# Altium schematic symbol library Xilinx.SchLib: 3 symbols
Pins are listed as number, name and electrical type; pins without a type are passive.

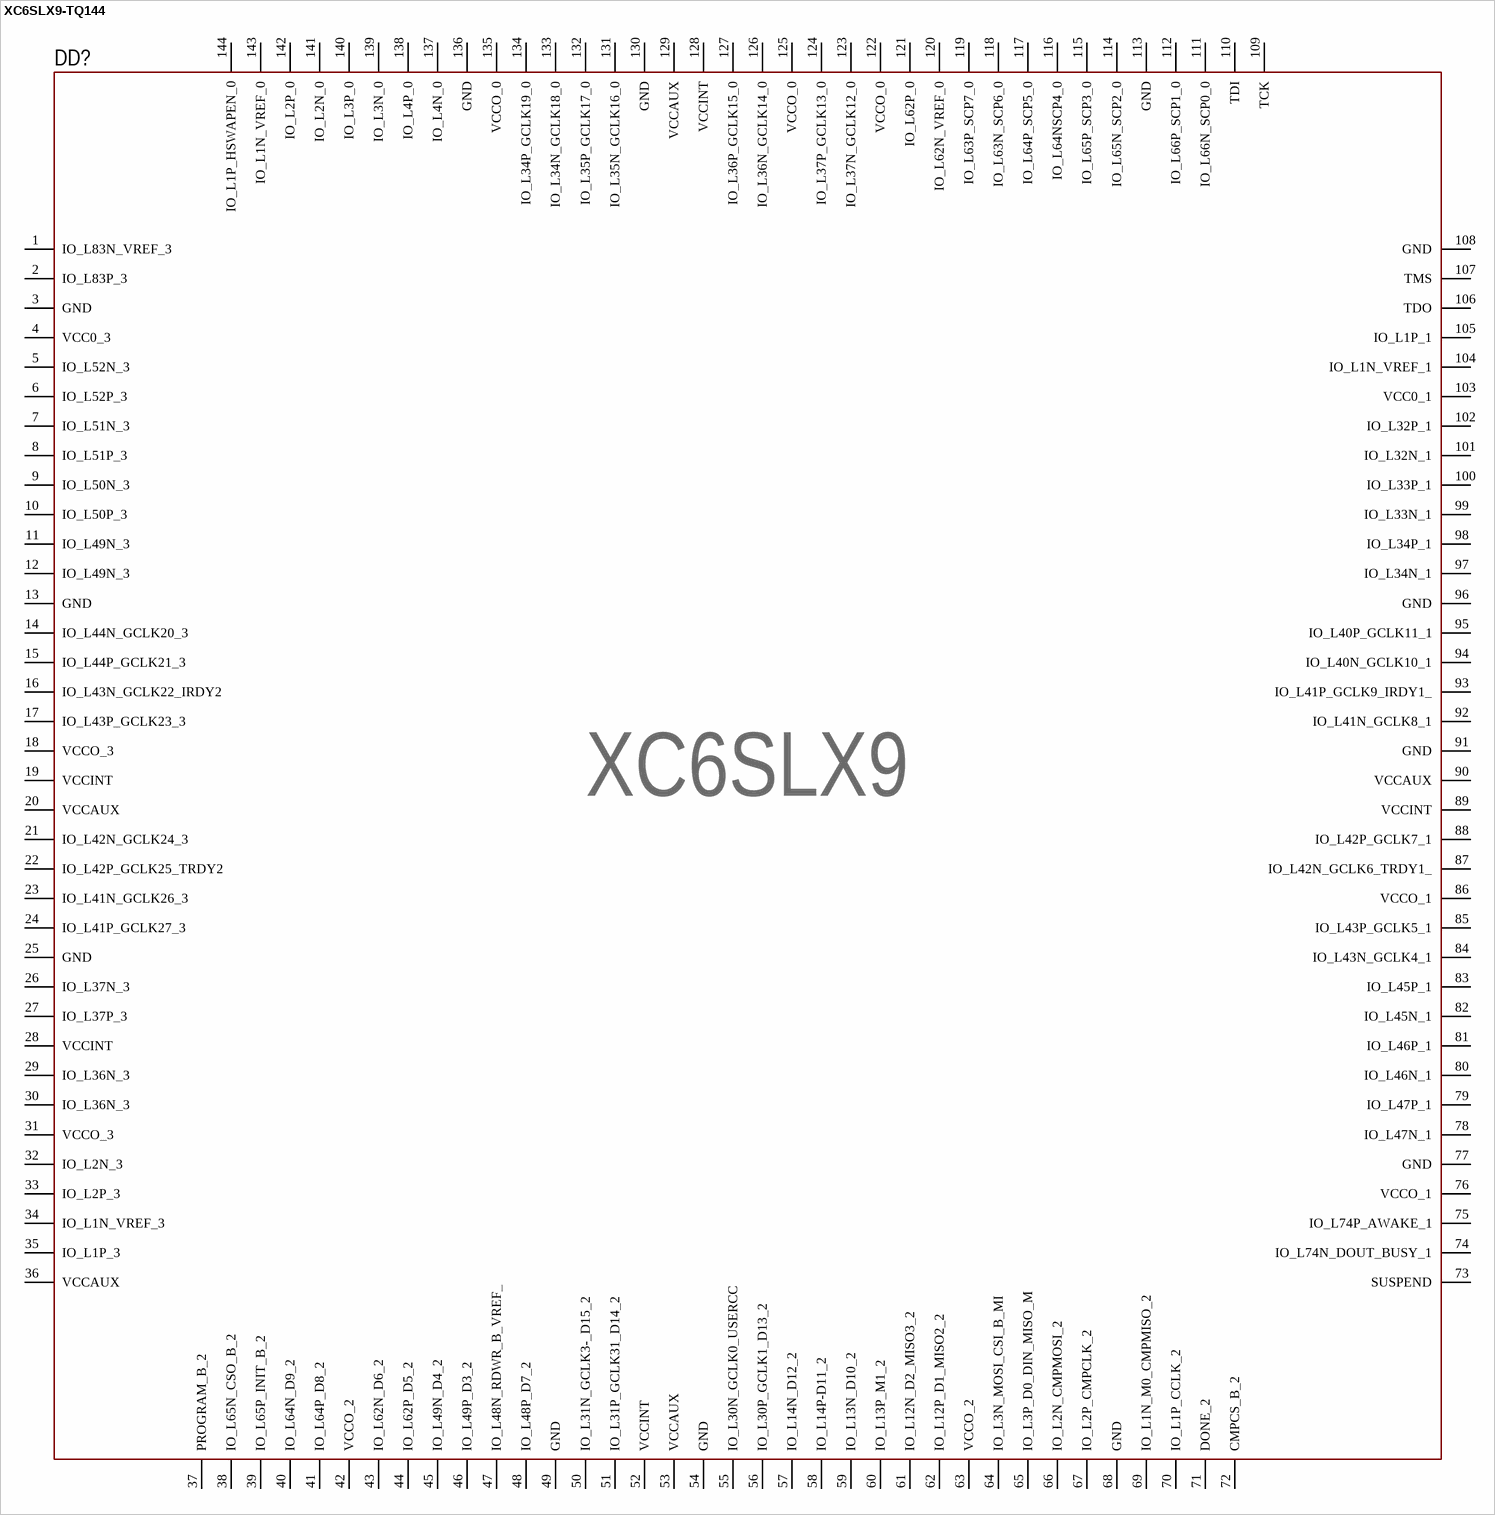
[diagram p0: symbol XC6SLX9-TQ144]

## XC6SLX9-TQ144
designator DD?, comment Part: XC6SLX9  (hidden comment: XC6SLX9-2TQG144I)
Spartan®-6 LX Field Programmable Gate Array (FPGA), 102 I/O, 144-Pin.; Speed: 2; Temp: I; Case: TQG144
footprint TQFP-144 (TQFP, 144-Leads, Body 20.00x20.00mm, Pitch 0.50mm, IPC Medium Density)
pins: 1 IO_L83N_VREF_3, 2 IO_L83P_3, 3 GND, 4 VCC0_3, 5 IO_L52N_3, 6 IO_L52P_3, 7 IO_L51N_3, 8 IO_L51P_3, 9 IO_L50N_3, 10 IO_L50P_3, 11 IO_L49N_3, 12 IO_L49N_3, 13 GND, 14 IO_L44N_GCLK20_3, 15 IO_L44P_GCLK21_3, 16 IO_L43N_GCLK22_IRDY2, 17 IO_L43P_GCLK23_3, 18 VCCO_3, 19 VCCINT, 20 VCCAUX, 21 IO_L42N_GCLK24_3, 22 IO_L42P_GCLK25_TRDY2, 23 IO_L41N_GCLK26_3, 24 IO_L41P_GCLK27_3, 25 GND, 26 IO_L37N_3, 27 IO_L37P_3, 28 VCCINT, 29 IO_L36N_3, 30 IO_L36N_3, 31 VCCO_3, 32 IO_L2N_3, 33 IO_L2P_3, 34 IO_L1N_VREF_3, 35 IO_L1P_3, 36 VCCAUX, 37 PROGRAM_B_2, 38 IO_L65N_CSO_B_2, 39 IO_L65P_INIT_B_2, 40 IO_L64N_D9_2, 41 IO_L64P_D8_2, 42 VCCO_2, 43 IO_L62N_D6_2, 44 IO_L62P_D5_2, 45 IO_L49N_D4_2, 46 IO_L49P_D3_2, 47 IO_L48N_RDWR_B_VREF_, 48 IO_L48P_D7_2, 49 GND, 50 IO_L31N_GCLK3-_D15_2, 51 IO_L31P_GCLK31_D14_2, 52 VCCINT, 53 VCCAUX, 54 GND, 55 IO_L30N_GCLK0_USERCC, 56 IO_L30P_GCLK1_D13_2, 57 IO_L14N_D12_2, 58 IO_L14P-D11_2, 59 IO_L13N_D10_2, 60 IO_L13P_M1_2, 61 IO_L12N_D2_MISO3_2, 62 IO_L12P_D1_MISO2_2, 63 VCCO_2, 64 IO_L3N_MOSI_CSI_B_MI, 65 IO_L3P_D0_DIN_MISO_M, 66 IO_L2N_CMPMOSI_2, 67 IO_L2P_CMPCLK_2, 68 GND, 69 IO_L1N_M0_CMPMISO_2, 70 IO_L1P_CCLK_2, 71 DONE_2, 72 CMPCS_B_2, 73 SUSPEND, 74 IO_L74N_DOUT_BUSY_1, 75 IO_L74P_AWAKE_1, 76 VCCO_1, 77 GND, 78 IO_L47N_1, 79 IO_L47P_1, 80 IO_L46N_1, 81 IO_L46P_1, 82 IO_L45N_1, 83 IO_L45P_1, 84 IO_L43N_GCLK4_1, 85 IO_L43P_GCLK5_1, 86 VCCO_1, 87 IO_L42N_GCLK6_TRDY1_, 88 IO_L42P_GCLK7_1, 89 VCCINT, 90 VCCAUX, 91 GND, 92 IO_L41N_GCLK8_1, 93 IO_L41P_GCLK9_IRDY1_, 94 IO_L40N_GCLK10_1, 95 IO_L40P_GCLK11_1, 96 GND, 97 IO_L34N_1, 98 IO_L34P_1, 99 IO_L33N_1, 100 IO_L33P_1, 101 IO_L32N_1, 102 IO_L32P_1, 103 VCC0_1, 104 IO_L1N_VREF_1, 105 IO_L1P_1, 106 TDO, 107 TMS, 108 GND, 109 TCK, 110 TDI, 111 IO_L66N_SCP0_0, 112 IO_L66P_SCP1_0, 113 GND, 114 IO_L65N_SCP2_0, 115 IO_L65P_SCP3_0, 116 IO_L64NSCP4_0, 117 IO_L64P_SCP5_0, 118 IO_L63N_SCP6_0, 119 IO_L63P_SCP7_0, 120 IO_L62N_VREF_0, 121 IO_L62P_0, 122 VCCO_0, 123 IO_L37N_GCLK12_0, 124 IO_L37P_GCLK13_0, 125 VCCO_0, 126 IO_L36N_GCLK14_0, 127 IO_L36P_GCLK15_0, 128 VCCINT, 129 VCCAUX, 130 GND, 131 IO_L35N_GCLK16_0, 132 IO_L35P_GCLK17_0, 133 IO_L34N_GCLK18_0, 134 IO_L34P_GCLK19_0, 135 VCCO_0, 136 GND, 137 IO_L4N_0, 138 IO_L4P_0, 139 IO_L3N_0, 140 IO_L3P_0, 141 IO_L2N_0, 142 IO_L2P_0, 143 IO_L1N_VREF_0, 144 IO_L1P_HSWAPEN_0

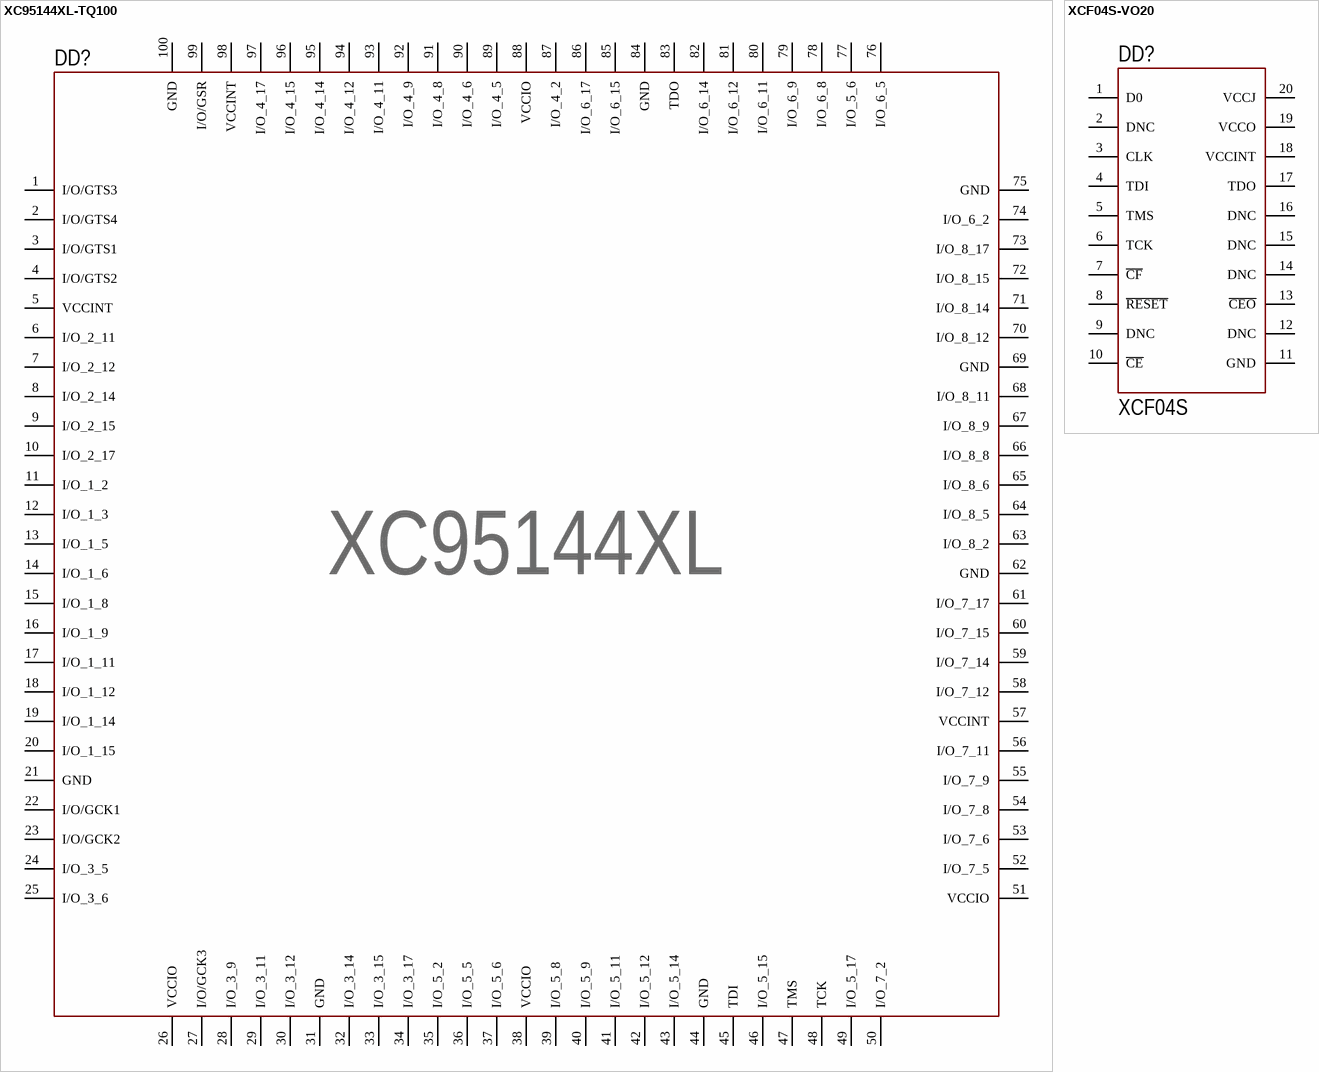
[diagram p1: symbols XC95144XL-TQ100 to XCF04S-VO20]

## XC95144XL-TQ100
designator DD?, comment Part: XC95144XL  (hidden comment: XC95144XL-5TQ100I)
CPLD 144 Macrocells, 3200 Gates, Delay Time 5 to 10 ns; Speed: 5; Temp: I; Case: TQ100
footprint TQFP-100 (TQFP, 100-Leads, Body 16.00x16.00mm, Pitch 0.50mm, IPC Medium Density)
pins: 1 I/O/GTS3, 2 I/O/GTS4, 3 I/O/GTS1, 4 I/O/GTS2, 5 VCCINT, 6 I/O_2_11, 7 I/O_2_12, 8 I/O_2_14, 9 I/O_2_15, 10 I/O_2_17, 11 I/O_1_2, 12 I/O_1_3, 13 I/O_1_5, 14 I/O_1_6, 15 I/O_1_8, 16 I/O_1_9, 17 I/O_1_11, 18 I/O_1_12, 19 I/O_1_14, 20 I/O_1_15, 21 GND, 22 I/O/GCK1, 23 I/O/GCK2, 24 I/O_3_5, 25 I/O_3_6, 26 VCCIO, 27 I/O/GCK3, 28 I/O_3_9, 29 I/O_3_11, 30 I/O_3_12, 31 GND, 32 I/O_3_14, 33 I/O_3_15, 34 I/O_3_17, 35 I/O_5_2, 36 I/O_5_5, 37 I/O_5_6, 38 VCCIO, 39 I/O_5_8, 40 I/O_5_9, 41 I/O_5_11, 42 I/O_5_12, 43 I/O_5_14, 44 GND, 45 TDI, 46 I/O_5_15, 47 TMS, 48 TCK, 49 I/O_5_17, 50 I/O_7_2, 51 VCCIO, 52 I/O_7_5, 53 I/O_7_6, 54 I/O_7_8, 55 I/O_7_9, 56 I/O_7_11, 57 VCCINT, 58 I/O_7_12, 59 I/O_7_14, 60 I/O_7_15, 61 I/O_7_17, 62 GND, 63 I/O_8_2, 64 I/O_8_5, 65 I/O_8_6, 66 I/O_8_8, 67 I/O_8_9, 68 I/O_8_11, 69 GND, 70 I/O_8_12, 71 I/O_8_14, 72 I/O_8_15, 73 I/O_8_17, 74 I/O_6_2, 75 GND, 76 I/O_6_5, 77 I/O_5_6, 78 I/O_6_8, 79 I/O_6_9, 80 I/O_6_11, 81 I/O_6_12, 82 I/O_6_14, 83 TDO, 84 GND, 85 I/O_6_15, 86 I/O_6_17, 87 I/O_4_2, 88 VCCIO, 89 I/O_4_5, 90 I/O_4_6, 91 I/O_4_8, 92 I/O_4_9, 93 I/O_4_11, 94 I/O_4_12, 95 I/O_4_14, 96 I/O_4_15, 97 I/O_4_17, 98 VCCINT, 99 I/O/GSR, 100 GND

## XCF04S-VO20
designator DD?, comment Part: XCF04S  (hidden comment: XCF04SVO20C)
Platform Flash In-System Programmable Configuration PROM; Temp: C; Case: VO20
footprint TSSOP-20 (TSOP, 20-Leads, Body 6.50x4.38mm, Pitch 0.65mm, IPC Medium Density)
pins: 1 D0, 2 DNC, 3 CLK, 4 TDI, 5 TMS, 6 TCK, 7 ~{CF}, 8 ~{RESET}, 9 DNC, 10 ~{CE}, 11 GND, 12 DNC, 13 ~{CEO}, 14 DNC, 15 DNC, 16 DNC, 17 TDO, 18 VCCINT, 19 VCCO, 20 VCCJ